# Altium footprint library con-panduit.PCBLIB: 22 footprints (part 2 of 2)
Each footprint in its own frame and in the unit in brackets; x right, y up, seen from the top. Pads: shape width x height; smd on the part's side, far side on the other; paste and mask are expansions set on the pad; w line width, h text height; cw(c..) or ccw(c..) is an arc to the next point about the centre after c.
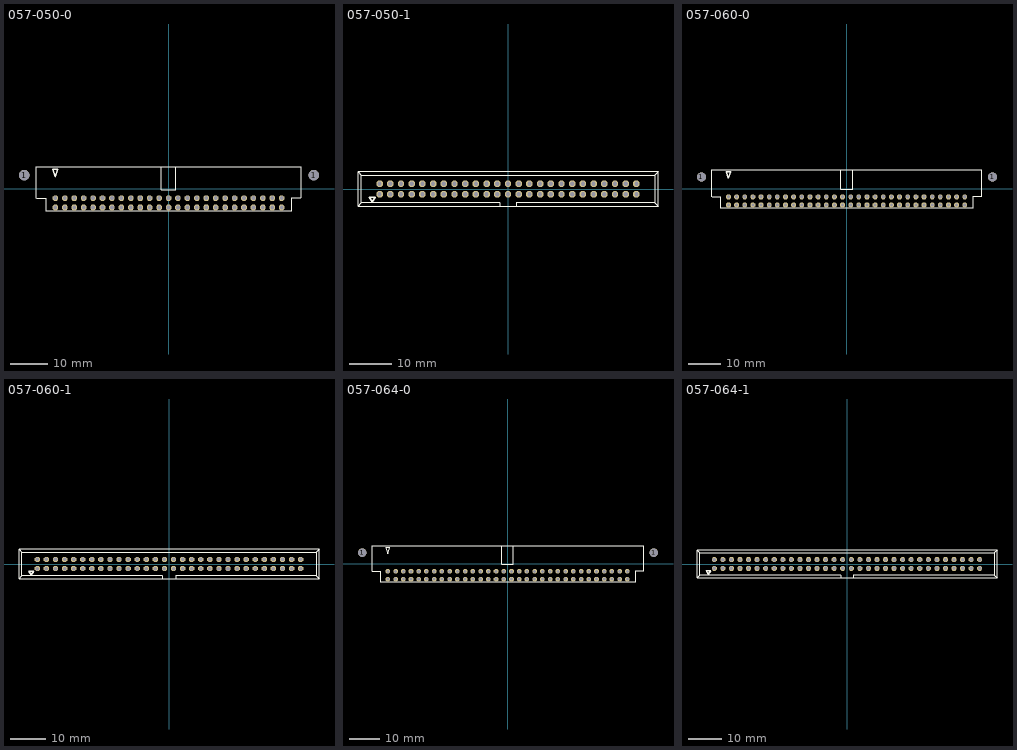
[diagram p1: the footprints below, top view; thin cyan lines are the x and y axes]

## 057-050-0 [mm]
pads (52):
  round 2.8 hole 2.8: 1(-38.88,3.66) 1(39.13,3.66)
  oct 1.5x1.5 hole 1: 1(-30.48,-5.08) 2(-30.48,-2.54) 3(-27.94,-5.08) 4(-27.94,-2.54) 5(-25.4,-5.08) 6(-25.4,-2.54) 7(-22.86,-5.08) 8(-22.86,-2.54) 9(-20.32,-5.08) 10(-20.32,-2.54) 11(-17.78,-5.08) 12(-17.78,-2.54) 13(-15.24,-5.08) 14(-15.24,-2.54) 15(-12.7,-5.08) 16(-12.7,-2.54) 17(-10.16,-5.08) 18(-10.16,-2.54) 19(-7.62,-5.08) 20(-7.62,-2.54) 21(-5.08,-5.08) 22(-5.08,-2.54) 23(-2.54,-5.08) 24(-2.54,-2.54) 25(0,-5.08) 26(0,-2.54) 27(2.54,-5.08) 28(2.54,-2.54) 29(5.08,-5.08) 30(5.08,-2.54) 31(7.62,-5.08) 32(7.62,-2.54) 33(10.16,-5.08) 34(10.16,-2.54) 35(12.7,-5.08) 36(12.7,-2.54) 37(15.24,-5.08) 38(15.24,-2.54) 39(17.78,-5.08) 40(17.78,-2.54) 41(20.32,-5.08) 42(20.32,-2.54) 43(22.86,-5.08) 44(22.86,-2.54) 45(25.4,-5.08) 46(25.4,-2.54) 47(27.94,-5.08) 48(27.94,-2.54) 49(30.48,-5.08) 50(30.48,-2.54)
Top Overlay:
  lines w0.203: -35.61,-2.54 -35.61,5.86 35.61,5.86 35.61,-2.44 ; -35.56,-2.54 -33.02,-2.54 -33.02,-5.98 ; -33.01,-6.04 33.01,-6.04 ; -1.9,5.86 -1.9,-0.23 1.9,-0.23 1.9,5.86 ; 33.02,-6.05 33.02,-2.54 35.56,-2.54
  lines w0.406: -31.2,5.22 -30.5,3.25 -29.8,5.22 -31.2,5.22

## 057-050-1 [mm]
pads (50):
  oct 1.5x1.5 hole 1: 1(-30.48,-1.27) 2(-30.48,1.27) 3(-27.94,-1.27) 4(-27.94,1.27) 5(-25.4,-1.27) 6(-25.4,1.27) 7(-22.86,-1.27) 8(-22.86,1.27) 9(-20.32,-1.27) 10(-20.32,1.27) 11(-17.78,-1.27) 12(-17.78,1.27) 13(-15.24,-1.27) 14(-15.24,1.27) 15(-12.7,-1.27) 16(-12.7,1.27) 17(-10.16,-1.27) 18(-10.16,1.27) 19(-7.62,-1.27) 20(-7.62,1.27) 21(-5.08,-1.27) 22(-5.08,1.27) 23(-2.54,-1.27) 24(-2.54,1.27) 25(0,-1.27) 26(0,1.27) 27(2.54,-1.27) 28(2.54,1.27) 29(5.08,-1.27) 30(5.08,1.27) 31(7.62,-1.27) 32(7.62,1.27) 33(10.16,-1.27) 34(10.16,1.27) 35(12.7,-1.27) 36(12.7,1.27) 37(15.24,-1.27) 38(15.24,1.27) 39(17.78,-1.27) 40(17.78,1.27) 41(20.32,-1.27) 42(20.32,1.27) 43(22.86,-1.27) 44(22.86,1.27) 45(25.4,-1.27) 46(25.4,1.27) 47(27.94,-1.27) 48(27.94,1.27) 49(30.48,-1.27) 50(30.48,1.27)
Top Overlay:
  lines w0.203: -1.9,-4.03 -1.9,-3.32 ; -1.9,-3.3 -34.81,-3.3 ; 1.9,-4.03 1.9,-3.32 ; 1.9,-3.3 34.81,-3.3 ; -35.61,-4.1 -35.61,4.1 ; -35.61,-4.1 35.61,-4.1 ; -35.61,-4.1 -34.81,-3.3 ; -35.61,4.1 35.61,4.1 ; -35.61,4.1 -34.81,3.3 ; -34.81,-3.3 -34.81,3.3 ; -34.81,3.3 34.81,3.3 ; 34.81,-3.3 34.81,3.3 ; 34.81,-3.3 35.61,-4.1 ; 34.81,3.3 35.61,4.1 ; 35.61,-4.1 35.61,4.1
  lines w0.406: -32.9,-1.97 -32.2,-3.04 -31.5,-1.97 -32.9,-1.97

## 057-060-0 [mm]
pads (62):
  round 2.8 hole 2.8: 1(-45.23,3.66) 1(45.48,3.66)
  oct 1.5x1.5 hole 1: 1(-36.83,-5.08) 2(-36.83,-2.54) 3(-34.29,-5.08) 4(-34.29,-2.54) 5(-31.75,-5.08) 6(-31.75,-2.54) 7(-29.21,-5.08) 8(-29.21,-2.54) 9(-26.67,-5.08) 10(-26.67,-2.54) 11(-24.13,-5.08) 12(-24.13,-2.54) 13(-21.59,-5.08) 14(-21.59,-2.54) 15(-19.05,-5.08) 16(-19.05,-2.54) 17(-16.51,-5.08) 18(-16.51,-2.54) 19(-13.97,-5.08) 20(-13.97,-2.54) 21(-11.43,-5.08) 22(-11.43,-2.54) 23(-8.89,-5.08) 24(-8.89,-2.54) 25(-6.35,-5.08) 26(-6.35,-2.54) 27(-3.81,-5.08) 28(-3.81,-2.54) 29(-1.27,-5.08) 30(-1.27,-2.54) 31(1.27,-5.08) 32(1.27,-2.54) 33(3.81,-5.08) 34(3.81,-2.54) 35(6.35,-5.08) 36(6.35,-2.54) 37(8.89,-5.08) 38(8.89,-2.54) 39(11.43,-5.08) 40(11.43,-2.54) 41(13.97,-5.08) 42(13.97,-2.54) 43(16.51,-5.08) 44(16.51,-2.54) 45(19.05,-5.08) 46(19.05,-2.54) 47(21.59,-5.08) 48(21.59,-2.54) 49(24.13,-5.08) 50(24.13,-2.54) 51(26.67,-5.08) 52(26.67,-2.54) 53(29.21,-5.08) 54(29.21,-2.54) 55(31.75,-5.08) 56(31.75,-2.54) 57(34.29,-5.08) 58(34.29,-2.54) 59(36.83,-5.08) 60(36.83,-2.54)
Top Overlay:
  lines w0.203: -41.96,-2.54 -41.96,5.86 41.96,5.86 41.96,-2.44 ; -41.91,-2.54 -39.37,-2.54 -39.37,-5.98 ; -39.36,-6.04 39.36,-6.04 ; -1.9,5.86 -1.9,-0.23 1.9,-0.23 1.9,5.86 ; 39.37,-6.05 39.37,-2.54 41.91,-2.54
  lines w0.406: -37.55,5.22 -36.85,3.25 -36.15,5.22 -37.55,5.22

## 057-060-1 [mm]
pads (60):
  oct 1.5x1.5 hole 1: 1(-36.83,-1.27) 2(-36.83,1.27) 3(-34.29,-1.27) 4(-34.29,1.27) 5(-31.75,-1.27) 6(-31.75,1.27) 7(-29.21,-1.27) 8(-29.21,1.27) 9(-26.67,-1.27) 10(-26.67,1.27) 11(-24.13,-1.27) 12(-24.13,1.27) 13(-21.59,-1.27) 14(-21.59,1.27) 15(-19.05,-1.27) 16(-19.05,1.27) 17(-16.51,-1.27) 18(-16.51,1.27) 19(-13.97,-1.27) 20(-13.97,1.27) 21(-11.43,-1.27) 22(-11.43,1.27) 23(-8.89,-1.27) 24(-8.89,1.27) 25(-6.35,-1.27) 26(-6.35,1.27) 27(-3.81,-1.27) 28(-3.81,1.27) 29(-1.27,-1.27) 30(-1.27,1.27) 31(1.27,-1.27) 32(1.27,1.27) 33(3.81,-1.27) 34(3.81,1.27) 35(6.35,-1.27) 36(6.35,1.27) 37(8.89,-1.27) 38(8.89,1.27) 39(11.43,-1.27) 40(11.43,1.27) 41(13.97,-1.27) 42(13.97,1.27) 43(16.51,-1.27) 44(16.51,1.27) 45(19.05,-1.27) 46(19.05,1.27) 47(21.59,-1.27) 48(21.59,1.27) 49(24.13,-1.27) 50(24.13,1.27) 51(26.67,-1.27) 52(26.67,1.27) 53(29.21,-1.27) 54(29.21,1.27) 55(31.75,-1.27) 56(31.75,1.27) 57(34.29,-1.27) 58(34.29,1.27) 59(36.83,-1.27) 60(36.83,1.27)
Top Overlay:
  lines w0.203: -1.9,-4.03 -1.9,-3.32 ; -1.9,-3.3 -41.16,-3.3 ; 1.9,-4.03 1.9,-3.32 ; 1.9,-3.3 41.16,-3.3 ; -41.96,-4.1 -41.96,4.1 ; -41.96,-4.1 41.96,-4.1 ; -41.96,-4.1 -41.16,-3.3 ; -41.96,4.1 41.96,4.1 ; -41.96,4.1 -41.16,3.3 ; -41.16,-3.3 -41.16,3.3 ; -41.16,3.3 41.16,3.3 ; 41.16,-3.3 41.16,3.3 ; 41.16,-3.3 41.96,-4.1 ; 41.16,3.3 41.96,4.1 ; 41.96,-4.1 41.96,4.1
  lines w0.406: -39.25,-1.97 -38.55,-3.04 -37.85,-1.97 -39.25,-1.97

## 057-064-0 [mm]
pads (66):
  round 2.8 hole 2.8: 1(-47.77,3.66) 1(48.02,3.66)
  oct 1.5x1.5 hole 1: 1(-39.37,-5.08) 2(-39.37,-2.54) 3(-36.83,-5.08) 4(-36.83,-2.54) 5(-34.29,-5.08) 6(-34.29,-2.54) 7(-31.75,-5.08) 8(-31.75,-2.54) 9(-29.21,-5.08) 10(-29.21,-2.54) 11(-26.67,-5.08) 12(-26.67,-2.54) 13(-24.13,-5.08) 14(-24.13,-2.54) 15(-21.59,-5.08) 16(-21.59,-2.54) 17(-19.05,-5.08) 18(-19.05,-2.54) 19(-16.51,-5.08) 20(-16.51,-2.54) 21(-13.97,-5.08) 22(-13.97,-2.54) 23(-11.43,-5.08) 24(-11.43,-2.54) 25(-8.89,-5.08) 26(-8.89,-2.54) 27(-6.35,-5.08) 28(-6.35,-2.54) 29(-3.81,-5.08) 30(-3.81,-2.54) 31(-1.27,-5.08) 32(-1.27,-2.54) 33(1.27,-5.08) 34(1.27,-2.54) 35(3.81,-5.08) 36(3.81,-2.54) 37(6.35,-5.08) 38(6.35,-2.54) 39(8.89,-5.08) 40(8.89,-2.54) 41(11.43,-5.08) 42(11.43,-2.54) 43(13.97,-5.08) 44(13.97,-2.54) 45(16.51,-5.08) 46(16.51,-2.54) 47(19.05,-5.08) 48(19.05,-2.54) 49(21.59,-5.08) 50(21.59,-2.54) 51(24.13,-5.08) 52(24.13,-2.54) 53(26.67,-5.08) 54(26.67,-2.54) 55(29.21,-5.08) 56(29.21,-2.54) 57(31.75,-5.08) 58(31.75,-2.54) 59(34.29,-5.08) 60(34.29,-2.54) 61(36.83,-5.08) 62(36.83,-2.54) 63(39.37,-5.08) 64(39.37,-2.54)
Top Overlay:
  lines w0.203: -44.5,-2.54 -44.5,5.86 44.5,5.86 44.5,-2.44 ; -44.45,-2.54 -41.91,-2.54 -41.91,-5.98 ; -41.9,-6.04 41.9,-6.04 ; -1.9,5.86 -1.9,-0.23 1.9,-0.23 1.9,5.86 ; 41.91,-6.05 41.91,-2.54 44.45,-2.54
  lines w0.406: -40.09,5.22 -39.39,3.25 -38.69,5.22 -40.09,5.22

## 057-064-1 [mm]
pads (64):
  oct 1.5x1.5 hole 1: 1(-39.37,-1.27) 2(-39.37,1.27) 3(-36.83,-1.27) 4(-36.83,1.27) 5(-34.29,-1.27) 6(-34.29,1.27) 7(-31.75,-1.27) 8(-31.75,1.27) 9(-29.21,-1.27) 10(-29.21,1.27) 11(-26.67,-1.27) 12(-26.67,1.27) 13(-24.13,-1.27) 14(-24.13,1.27) 15(-21.59,-1.27) 16(-21.59,1.27) 17(-19.05,-1.27) 18(-19.05,1.27) 19(-16.51,-1.27) 20(-16.51,1.27) 21(-13.97,-1.27) 22(-13.97,1.27) 23(-11.43,-1.27) 24(-11.43,1.27) 25(-8.89,-1.27) 26(-8.89,1.27) 27(-6.35,-1.27) 28(-6.35,1.27) 29(-3.81,-1.27) 30(-3.81,1.27) 31(-1.27,-1.27) 32(-1.27,1.27) 33(1.27,-1.27) 34(1.27,1.27) 35(3.81,-1.27) 36(3.81,1.27) 37(6.35,-1.27) 38(6.35,1.27) 39(8.89,-1.27) 40(8.89,1.27) 41(11.43,-1.27) 42(11.43,1.27) 43(13.97,-1.27) 44(13.97,1.27) 45(16.51,-1.27) 46(16.51,1.27) 47(19.05,-1.27) 48(19.05,1.27) 49(21.59,-1.27) 50(21.59,1.27) 51(24.13,-1.27) 52(24.13,1.27) 53(26.67,-1.27) 54(26.67,1.27) 55(29.21,-1.27) 56(29.21,1.27) 57(31.75,-1.27) 58(31.75,1.27) 59(34.29,-1.27) 60(34.29,1.27) 61(36.83,-1.27) 62(36.83,1.27) 63(39.37,-1.27) 64(39.37,1.27)
Top Overlay:
  lines w0.203: -1.9,-4.03 -1.9,-3.32 ; -1.9,-3.3 -43.7,-3.3 ; 1.9,-4.03 1.9,-3.32 ; 1.9,-3.3 43.7,-3.3 ; -44.5,-4.1 -44.5,4.1 ; -44.5,-4.1 44.5,-4.1 ; -44.5,-4.1 -43.7,-3.3 ; -44.5,4.1 44.5,4.1 ; -44.5,4.1 -43.7,3.3 ; -43.7,-3.3 -43.7,3.3 ; -43.7,3.3 43.7,3.3 ; 43.7,-3.3 43.7,3.3 ; 43.7,-3.3 44.5,-4.1 ; 43.7,3.3 44.5,4.1 ; 44.5,-4.1 44.5,4.1
  lines w0.406: -41.79,-1.97 -41.09,-3.04 -40.39,-1.97 -41.79,-1.97